# EAGLE library part LM393-8-SOIC (library Gucci_ControlBoard)
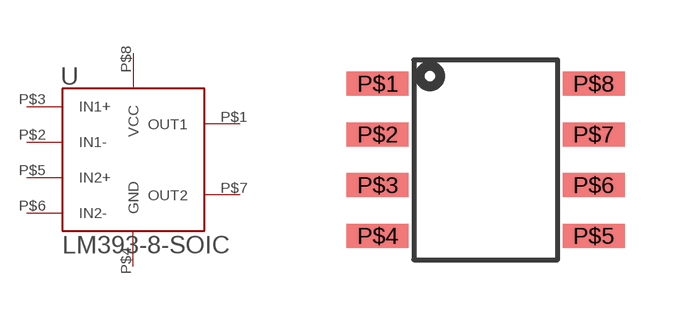
[diagram p7: symbol with the pads of 8-SOIC; footprint 8-SOIC]

Designator prefix U

## LM393-8-SOIC  [8-SOIC]
P$1  OUT1
P$2  IN1-
P$3  IN1+
P$4  GND
P$5  IN2+
P$6  IN2-
P$7  OUT2
P$8  VCC

## Footprint 8-SOIC (pad centres in mm)
smd 1.55 x 0.6: P$1 -2.7,1.905; P$2 -2.7,0.635; P$3 -2.7,-0.635; P$4 -2.7,-1.905; P$5 2.7,-1.905; P$6 2.7,-0.635; P$7 2.7,0.635; P$8 2.7,1.905